# EAGLE library part CD4066BE (library CD4066BE)
CMOS Quad Bilateral Switch Source: Datasheet <https://datasheet.datasheetarchive.com/originals/distributors/Datasheets-SFU2/DSASFU100028824.pdf>
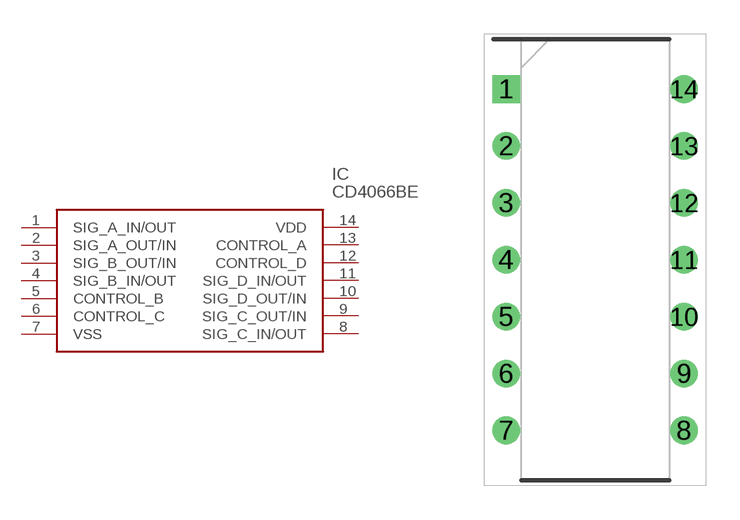
[diagram p0: symbol with the pads of DIP794W53P254L1930H508Q14N; footprint DIP794W53P254L1930H508Q14N]

Designator prefix IC

## CD4066BE (Description: CMOS Quad Bilateral Switch; Height: 5.08mm; Manufacturer_Name: Texas Instruments; Manufacturer_Part_Number: CD4066BE; Mouser_Part_Number: 595-CD4066BE; Mouser_Price-Stock: https://www.mouser.co.uk/ProductDetail/Texas-Instruments/CD4066BE?qs=mTHRaKC2c7ObpofRtjqLig%3D%3D)  [DIP794W53P254L1930H508Q14N]
1  SIG_A_IN/OUT
2  SIG_A_OUT/IN
3  SIG_B_OUT/IN
4  SIG_B_IN/OUT
5  CONTROL_B
6  CONTROL_C
7  VSS
8  SIG_C_IN/OUT
9  SIG_C_OUT/IN
10  SIG_D_OUT/IN
11  SIG_D_IN/OUT
12  CONTROL_D
13  CONTROL_A
14  VDD

## Footprint DIP794W53P254L1930H508Q14N (pad centres in mm)
N (R-PDIP-T)
drill 0.73 pad 1.13 square: 1 -3.97,7.62
drill 0.73 pad 1.13: 2 -3.97,5.08; 3 -3.97,2.54; 4 -3.97,0; 5 -3.97,-2.54; 6 -3.97,-5.08; 7 -3.97,-7.62; 8 3.97,-7.62; 9 3.97,-5.08; 10 3.97,-2.54; 11 3.97,0; 12 3.97,2.54; 13 3.97,5.08; 14 3.97,7.62